# Altium footprint library VQFN-48_7x7x05P.PcbLib: 1 footprints
Each footprint in its own frame and in the unit in brackets; x right, y up, seen from the top. Pads: shape width x height; smd on the part's side, far side on the other; paste and mask are expansions set on the pad; w line width, h text height; cw(c..) or ccw(c..) is an arc to the next point about the centre after c.
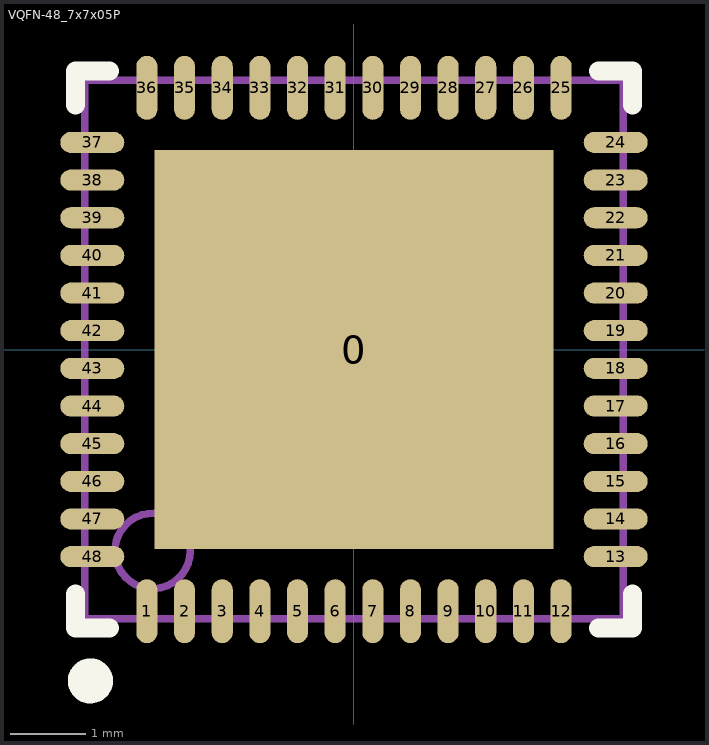
[diagram p0: the footprint, top view; thin cyan lines are the x and y axes]

## VQFN-48_7x7x05P [mm]
pads (49):
  rect 5.3x5.3 smd paste-2.65 mask+0.051: 0(0,0)
  oval 0.28x0.85 smd paste-0.025 mask+0.051: 1(-2.75,-3.475) 2(-2.25,-3.475) 3(-1.75,-3.475) 4(-1.25,-3.475) 5(-0.75,-3.475) 6(-0.25,-3.475) 7(0.25,-3.475) 8(0.75,-3.475) 9(1.25,-3.475) 10(1.75,-3.475) 11(2.25,-3.475) 12(2.75,-3.475) 25(2.75,3.475) 26(2.25,3.475) 27(1.75,3.475) 28(1.25,3.475) 29(0.75,3.475) 30(0.25,3.475) 31(-0.25,3.475) 32(-0.75,3.475) 33(-1.25,3.475) 34(-1.75,3.475) 35(-2.25,3.475) 36(-2.75,3.475)
  oval 0.85x0.28 smd paste-0.025 mask+0.051: 13(3.475,-2.75) 14(3.475,-2.25) 15(3.475,-1.75) 16(3.475,-1.25) 17(3.475,-0.75) 18(3.475,-0.25) 19(3.475,0.25) 20(3.475,0.75) 21(3.475,1.25) 22(3.475,1.75) 23(3.475,2.25) 24(3.475,2.75) 37(-3.475,2.75) 38(-3.475,2.25) 39(-3.475,1.75) 40(-3.475,1.25) 41(-3.475,0.75) 42(-3.475,0.25) 43(-3.475,-0.25) 44(-3.475,-0.75) 45(-3.475,-1.25) 46(-3.475,-1.75) 47(-3.475,-2.25) 48(-3.475,-2.75)
Top Overlay:
  circle w0.3: c-3.5,-4.4 r0.15
  lines w0.254: -3.7,-3.25 -3.7,-3.7 -3.25,-3.7 ; -3.7,3.25 -3.7,3.7 -3.25,3.7 ; 3.25,-3.7 3.7,-3.7 3.7,-3.25 ; 3.25,3.7 3.7,3.7 3.7,3.25
Top Paste:
  rectangle: 0.1,0.1 1.2,1.2
  rectangle: 0.1,1.4 1.2,2.55
  rectangle: 1.4,0.1 2.55,1.2
  rectangle: 1.4,1.4 2.55,2.55
  region: -1.4,2.55 -2.55,2.55 -2.55,1.4 -1.4,1.4
  region: -1.4,1.2 -2.55,1.2 -2.55,0.1 -1.4,0.1
  region: -0.1,2.55 -1.2,2.55 -1.2,1.4 -0.1,1.4
  region: -0.1,1.2 -1.2,1.2 -1.2,0.1 -0.1,0.1
  region: -2.55,-1.4 -2.55,-2.55 -1.4,-2.55 -1.4,-1.4
  region: -1.225,-1.425 -1.225,-2.525 -0.075,-2.525 -0.075,-1.425
  region: -2.525,-0.075 -2.525,-1.225 -1.425,-1.225 -1.425,-0.075
  region: -1.2,-0.1 -1.2,-1.2 -0.1,-1.2 -0.1,-0.1
  region: 1.4,-1.4 1.4,-2.55 2.55,-2.55 2.55,-1.4
  region: 0.075,-1.425 0.075,-2.525 1.225,-2.525 1.225,-1.425
  region: 1.425,-0.075 1.425,-1.225 2.525,-1.225 2.525,-0.075
  region: 0.1,-0.1 0.1,-1.2 1.2,-1.2 1.2,-0.1
Mechanical 13:
  circle w0.1: c-2.675,-2.675 r0.5
  lines w0.1: -3.575,-3.575 -3.575,3.575 3.575,3.575 3.575,-3.575 -3.575,-3.575